# EAGLE library part MCP73831-2ACI/MC (library LiPO_MCP73831_2)
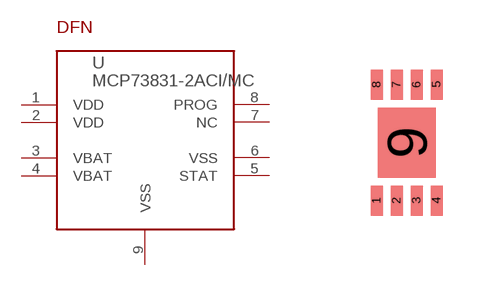
[diagram p0: symbol with the pads of 2X3_DFN; footprint 2X3_DFN]

Designator prefix -

## MCP73831-2ACI/MC (MPN: MCP73831-2ACI/MC)  [2X3_DFN]
1  VDD
2  VDD
3  VBAT
4  VBAT
5  STAT
6  VSS
7  NC  nc
8  PROG
9  VSS

## Footprint 2X3_DFN (pad centres in mm)
smd 0.3 x 0.75: 1 -0.75,-1.45; 2 -0.25,-1.45; 3 0.25,-1.45; 4 0.75,-1.45; 5 0.75,1.45; 6 0.25,1.45; 7 -0.25,1.45; 8 -0.75,1.45
smd 1.45 x 1.75: 9 0,0